# Altium integrated library L7809CV VOLTAGE REGULATOR.IntLib: 1 symbol
Pins are listed as number, name and electrical type; pins without a type are passive.

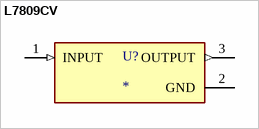
[diagram p0: symbol L7809CV]

## L7809CV
designator U?
Linear Voltage Regulator IC Positive Fixed 1 Output 1.5A TO-220; MF: STMicroelectronics; MP: L7809CV; SnapEDA_Link: https://www.snapeda.com/parts/L7809CV/STMicroelectronics/view-part/?ref=snap; Package: TO-220-3 STMicroelectronics; Value: *; Check_prices: https://www.snapeda.com/parts/L7809CV/STMicroelectronics/view-part/?ref=eda
footprint TO255P1020X450X1968-3B
pins: 1 INPUT (in), 2 GND (power), 3 OUTPUT (out)